# EAGLE library part SJ-3506-SMT-TR (library Audio Connectors)
CONN JACK STEREO 3.5MM SMD R/A Manufacturer's datasheet <https://www.cuidevices.com/product/resource/sj-3506-smt-tr.pdf>
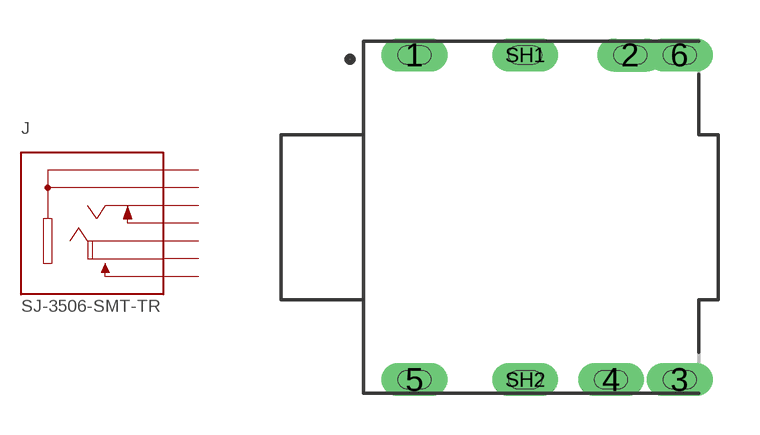
[diagram p0: symbol with the pads of SJ-3506-SMT-TR; footprint SJ-3506-SMT-TR]

Designator prefix J

## SJ-3506-SMT-TR (CREATED_BY: PCBLayout.com; DIGIKEY_PN: CP-3506SJTR-ND; MANUFACTURER: CUI Devices; MPN: SJ-3506-SMT-TR)  [SJ-3506-SMT-TR]
1  1  pas
2  2  pas
3  3  pas
4  4  pas
5  5  pas
6  6  pas
SH1  SHIELDING  pas
SH2  SHIELDING  pas

## Footprint SJ-3506-SMT-TR (pad centres in mm)
drill 0.7 pad 0.813 long: 1 -4.6,5.9; 2 3.25,5.9; 3 5.05,-5.9; 4 2.55,-5.9; 5 -4.6,-5.9; 6 5.05,5.9; SH1 -0.57,5.9; SH2 -0.57,-5.9